# Altium schematic symbol library LIS2DW12.SchLib: 1 symbol
Pins are listed as number, name and electrical type; pins without a type are passive.

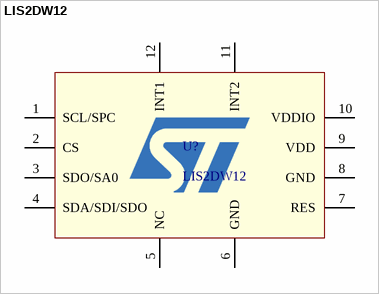
[diagram p0: symbol LIS2DW12]

## LIS2DW12
designator U?
MEMS digital output motion sensor: high-performance ultra-low-power 3-axis / "femto" accelerometer
footprint LGA-12 package
pins: 1 SCL/SPC, 2 CS, 3 SDO/SA0, 4 SDA/SDI/SDO, 5 NC, 6 GND, 7 RES, 8 GND, 9 VDD, 10 VDDIO, 11 INT2, 12 INT1